# EAGLE library part 74ALVC164245DGG,51 (library NXP_By_element14_Batch_1)
16-bit dual supply translating transceiver
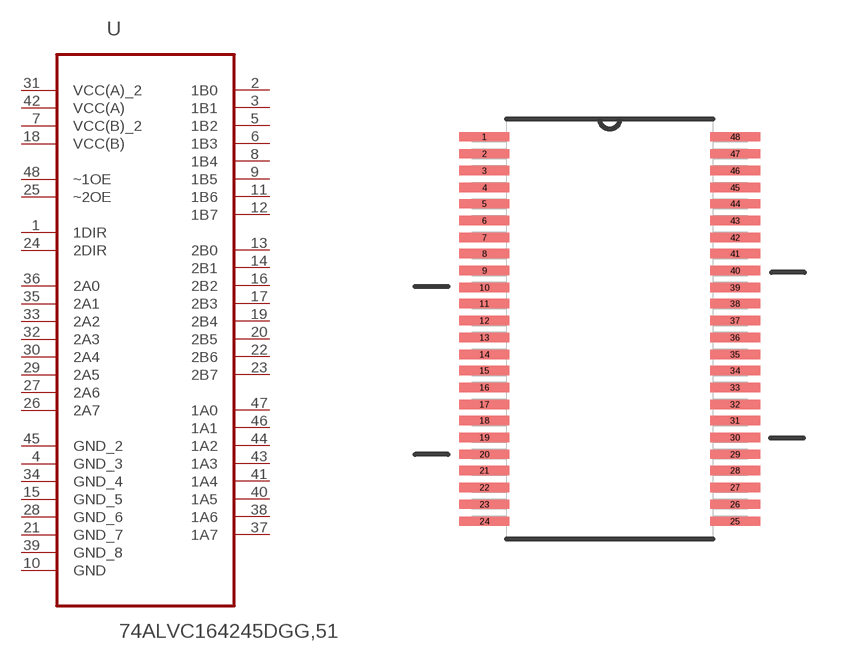
[diagram p5: symbol with the pads of SOP50P810X120-48N; footprint SOP50P810X120-48N]

Designator prefix U

## 74ALVC164245DGG,51 (MPN: 74ALVC164245DGG,51; OC_FARNELL: -; OC_NEWARK: 71R0649; P1I: o; PACKAGE: TSSOP-48; SUPPLIER: NXP)  [SOP50P810X120-48N]
1  1DIR  in
2  1B0
3  1B1
4  GND_3  pas
5  1B2
6  1B3
7  VCC(B)_2  pwr
8  1B4
9  1B5
10  GND  pas
11  1B6
12  1B7
13  2B0
14  2B1
15  GND_5  pas
16  2B2
17  2B3
18  VCC(B)  pwr
19  2B4
20  2B5
21  GND_7  pas
22  2B6
23  2B7
24  2DIR  in
25  ~2OE  in
26  2A7
27  2A6
28  GND_6
29  2A5
30  2A4
31  VCC(A)_2  pwr
32  2A3
33  2A2
34  GND_4  pas
35  2A1
36  2A0
37  1A7
38  1A6
39  GND_8  pas
40  1A5
41  1A4
42  VCC(A)  pwr
43  1A3
44  1A2
45  GND_2  pas
46  1A1
47  1A0
48  ~1OE  in

## Footprint SOP50P810X120-48N (pad centres in mm)
smd 1.499 x 0.279: 1 -3.759,5.766; 2 -3.759,5.258; 3 -3.759,4.75; 4 -3.759,4.242; 5 -3.759,3.759; 6 -3.759,3.251; 7 -3.759,2.743; 8 -3.759,2.261; 9 -3.759,1.753; 10 -3.759,1.245; 11 -3.759,0.762; 12 -3.759,0.254; 13 -3.759,-0.254; 14 -3.759,-0.762; 15 -3.759,-1.245; 16 -3.759,-1.753; 17 -3.759,-2.261; 18 -3.759,-2.743; 19 -3.759,-3.251; 20 -3.759,-3.759; 21 -3.759,-4.242; 22 -3.759,-4.75; 23 -3.759,-5.258; 24 -3.759,-5.766; 25 3.759,-5.766; 26 3.759,-5.258; 27 3.759,-4.75; 28 3.759,-4.242; 29 3.759,-3.759; 30 3.759,-3.251; 31 3.759,-2.743; 32 3.759,-2.261; 33 3.759,-1.753; 34 3.759,-1.245; 35 3.759,-0.762; 36 3.759,-0.254; 37 3.759,0.254; 38 3.759,0.762; 39 3.759,1.245; 40 3.759,1.753; 41 3.759,2.261; 42 3.759,2.743; 43 3.759,3.251; 44 3.759,3.759; 45 3.759,4.242; 46 3.759,4.75; 47 3.759,5.258; 48 3.759,5.766